# EAGLE library part 693021010811 (library Input Output Connectors)
CONN MICRO SIM CARD PUSH-PUSH Manufacturer's datasheet <https://katalog.we-online.de/em/datasheet/693021010811.pdf>
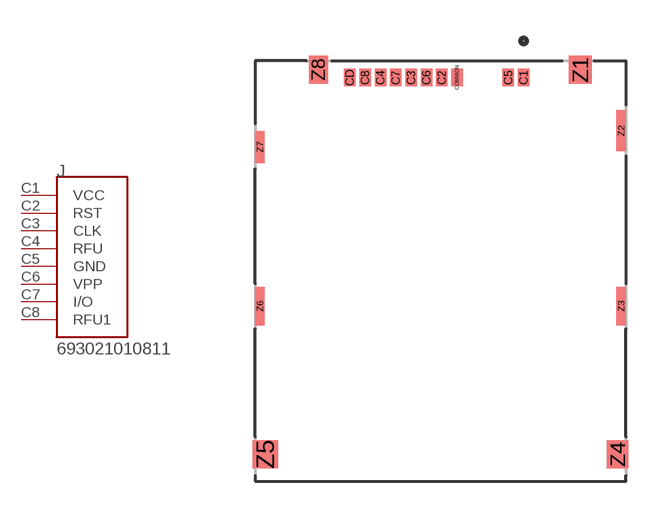
[diagram p5: symbol with the pads of 693021010811; footprint 693021010811]

Designator prefix J

## 693021010811 (CREATED_BY: PCBLayout.com; DIGIKEY_PART_NO: 732-5955-2-ND; MANUFACTURER: Wurth Electronics Inc.; MPN: 693021010811)  [693021010811]
C1  VCC  pwr
C2  RST  in
C3  CLK  in
C4  RFU  pas
C5  GND  pwr
C6  VPP  pwr
C7  I/O
C8  RFU1  pas

## Footprint 693021010811 (pad centres in mm)
smd 0.45 x 0.68: C1 3.25,7.565; C2 0.05,7.565; C3 -1.15,7.565; C4 -2.35,7.565; C5 2.65,7.565; C6 -0.55,7.565; C7 -1.75,7.565; C8 -2.95,7.565; CD -3.55,7.565; COMMON 0.65,7.565
smd 0.9 x 1.1: Z1 5.46,7.875
smd 0.37 x 1.6: Z2 7.065,5.485
smd 0.37 x 1.5: Z3 7.065,-1.375; Z6 -7.065,-1.375
smd 0.85 x 1.1: Z4 6.925,-7.175
smd 1 x 1.1: Z5 -6.85,-7.175
smd 0.37 x 1.25: Z7 -7.065,4.85
smd 0.75 x 1.1: Z8 -4.77,7.875